# EAGLE library part REF5050AIDGKT (library REF5050AIDGKT)
VOLTAGE REFERENCE
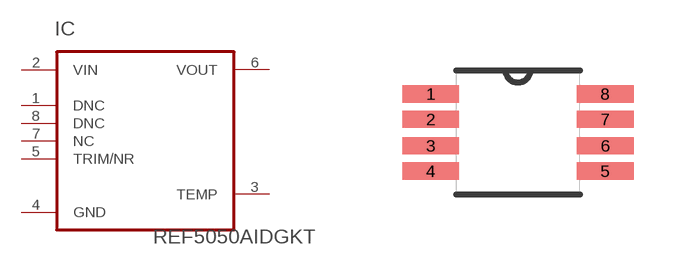
[diagram p0: symbol with the pads of SOP65P490X110-8N; footprint SOP65P490X110-8N]

Designator prefix IC

## REF5050AIDGKT (AVAILABILITY: Unavailable; DESCRIPTION: VOLTAGE REFERENCE, SERIES, 5V, MSOP-8; Topology: Series; Input Voltage Min: 5.2V;; MF: Texas Instruments; MP: REF5050AIDGKT; PACKAGE: MSOP-8 Texas Instruments; PRICE: None)  [SOP65P490X110-8N]
1  DNC  nc
2  VIN  pwr
3  TEMP  in
4  GND  pas
5  TRIM/NR  in
6  VOUT  out
7  NC  nc
8  DNC  nc

## Footprint SOP65P490X110-8N (pad centres in mm)
smd 1.422 x 0.432: 1 -2.184,0.965; 2 -2.184,0.33; 3 -2.184,-0.33; 4 -2.184,-0.965; 5 2.184,-0.965; 6 2.184,-0.33; 7 2.184,0.33; 8 2.184,0.965